# Altium footprint library Mega16SMT.PcbLib: 22 footprints (part 2 of 2)
Each footprint in its own frame and in the unit in brackets; x right, y up, seen from the top. Pads: shape width x height; smd on the part's side, far side on the other; paste and mask are expansions set on the pad; w line width, h text height; cw(c..) or ccw(c..) is an arc to the next point about the centre after c.
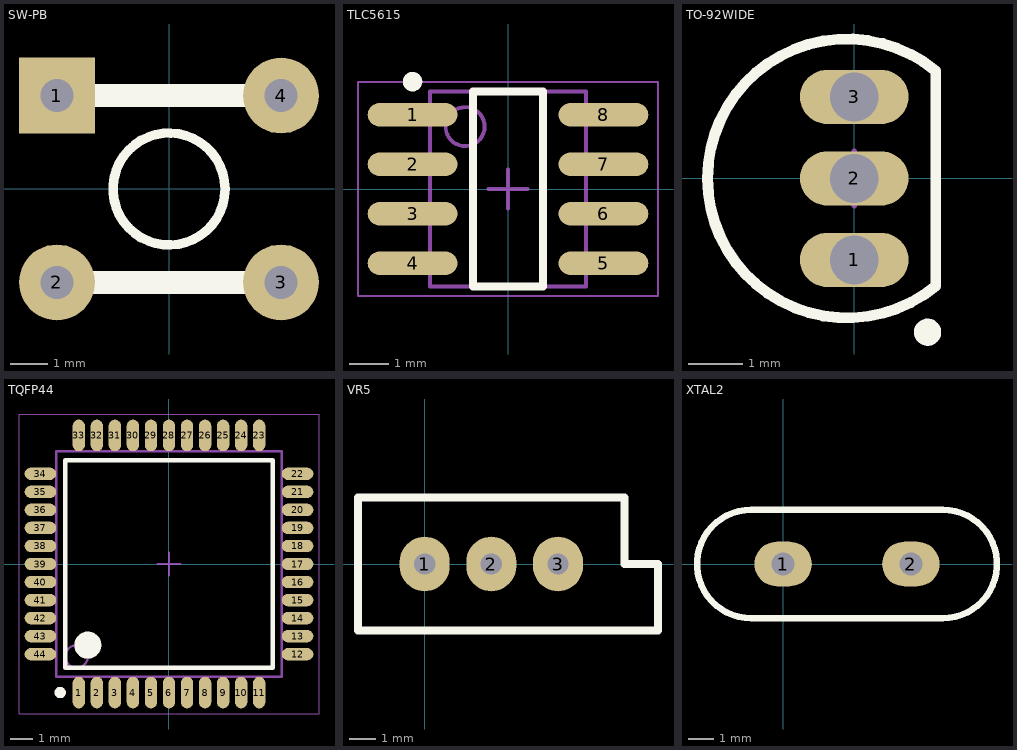
[diagram p1: the footprints below, top view; thin cyan lines are the x and y axes]

## SW-PB [mil]
pads (4):
  rect 80x80 hole 35: 1(-118.11,98.42)
  round 80 hole 35: 2(-118.11,-98.43) 3(118.11,-98.43) 4(118.11,98.42)
Top Overlay:
  circle w10: c0,0 r59.05
  lines w24: -118.11,-98.43 118.11,-98.43 ; -118.11,98.42 118.11,98.42

## TLC5615 [mm]
pads (8):
  oval 2.3x0.6 smd: 1(-2.45,1.905) 2(-2.45,0.635) 3(-2.45,-0.635) 4(-2.45,-1.905) 5(2.45,-1.905) 6(2.45,-0.635) 7(2.45,0.635) 8(2.45,1.905)
Top Overlay:
  circle w0.25: c-2.45,2.755 r0.125
  lines w0.2: -0.9,-2.5 0.9,-2.5 0.9,2.5 -0.9,2.5 -0.9,-2.5
Mechanical 13:
  circle w0.1: c-1.1,1.6 r0.5
  lines w0.1: -2,-2.5 2,-2.5 2,2.5 -2,2.5 -2,-2.5
Mechanical 15:
  lines w0.05: -3.85,-2.75 3.85,-2.75 3.85,2.75 -3.85,2.75 -3.85,-2.75
  lines w0.1: -0.5,0 0.5,0 ; 0,-0.5 0,0.5
3D body: height 1.75, standoff 0.1, extent -2,-2.5 2,2.5

## TO-92WIDE [mm]
pads (3):
  oval 2x1 hole 0.9: 1(0,-1.5) 2(0,0) 3(0,1.5)
Top Overlay:
  circle w0.25: c1.35,-2.83 r0.125
  lines w0.2: 1.5,-1.98 cw(c-0.133,0) 1.5,1.98 1.5,-1.98
Mechanical 13:
  lines w0.1: 1.5,-1.98 cw(c-0.133,0) 1.5,1.98 1.5,-1.98
Mechanical 15:
  lines w0.1: -0.5,0 0.5,0 ; 0,-0.5 0,0.5

## TQFP44 [mm] "TQFP, 44-Leads, Body 10.00x10.00mm, Pitch 0.80mm, IPC Medium Density"
height 1.2
pads (44):
  oval 0.55x1.4 smd: 1(-4,-5.7) 2(-3.2,-5.7) 3(-2.4,-5.7) 4(-1.6,-5.7) 5(-0.8,-5.7) 6(0,-5.7) 7(0.8,-5.7) 8(1.6,-5.7) 9(2.4,-5.7) 10(3.2,-5.7) 11(4,-5.7) 23(4,5.7) 24(3.2,5.7) 25(2.4,5.7) 26(1.6,5.7) 27(0.8,5.7) 28(0,5.7) 29(-0.8,5.7) 30(-1.6,5.7) 31(-2.4,5.7) 32(-3.2,5.7) 33(-4,5.7)
  oval 1.4x0.55 smd: 12(5.7,-4) 13(5.7,-3.2) 14(5.7,-2.4) 15(5.7,-1.6) 16(5.7,-0.8) 17(5.7,0) 18(5.7,0.8) 19(5.7,1.6) 20(5.7,2.4) 21(5.7,3.2) 22(5.7,4) 34(-5.7,4) 35(-5.7,3.2) 36(-5.7,2.4) 37(-5.7,1.6) 38(-5.7,0.8) 39(-5.7,0) 40(-5.7,-0.8) 41(-5.7,-1.6) 42(-5.7,-2.4) 43(-5.7,-3.2) 44(-5.7,-4)
Top Overlay:
  circle w0.25: c-4.825,-5.7 r0.125
  circle w0.6: c-3.6,-3.6 r0.3
  lines w0.2: -4.6,-4.6 4.6,-4.6 4.6,4.6 -4.6,4.6 -4.6,-4.6
Assembly Top:
  circle w0.1: c-4.1,-4.1 r0.5
  lines w0.1: -5,-5 5,-5 5,5 -5,5 -5,-5
Courtyard Top:
  lines w0.05: -6.65,-6.65 6.65,-6.65 6.65,6.65 -6.65,6.65 -6.65,-6.65
  lines w0.1: -0.5,0 0.5,0 ; 0,-0.5 0,0.5
3D body: height 1.2, standoff 0.05, extent -5,-5 5,5

## VR5 [mil]
pads (3):
  oval 75x82 hole 32: 1(-0.14,0.24) 2(99.86,0.24) 3(199.86,0.24)
Top Overlay:
  lines w12: -100.14,-99.76 349.86,-99.76 349.86,0.24 299.86,0.24 299.86,100.24 -100.14,100.24 -100.14,-99.76

## XTAL2 [mil]
pads (2):
  oval 90x70 hole 36: 1(0,0.36) 2(200,0.36)
Top Overlay:
  lines w10: -50,-84.64 cw(c-50,0.36) -50,85.36 250,85.36 cw(c250,0.36) 250,-84.64 -50,-84.64